# EAGLE library part ADIS16460* (library HyTechDevices)
14 pin connector specifically for ADIS16460 IMU Samtec Tiger Claw Datasheet <https://suddendocs.samtec.com/catalog_english/clm_sm.pdf> ADIS16460 Datasheet <https://www.analog.com/media/en/technical-documentation/data-sheets/ADIS16460.pdf>
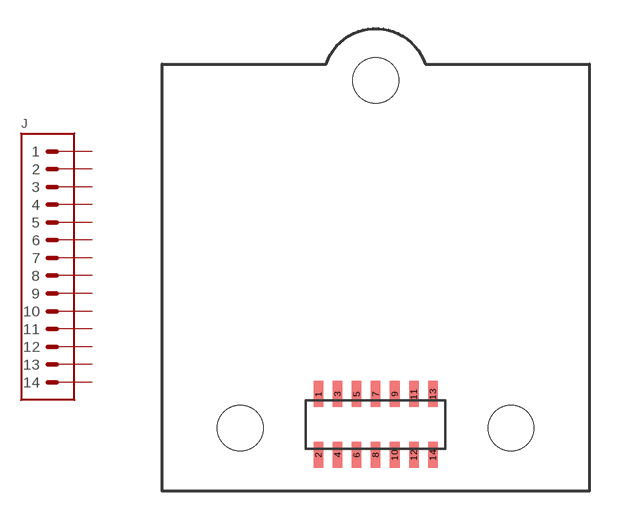
[diagram p56: symbol with the pads of ADIS16460; footprint ADIS16460]

Designator prefix J

## ADIS16460 (DKPN: SAM1129-07-ND; MANUFACTURER: Samtec Inc.; MPN: CLM-107-02)  [ADIS16460]
1  1  pas
2  2  pas
3  3  pas
4  4  pas
5  5  pas
6  6  pas
7  7  pas
8  8  pas
9  9  pas
10  10  pas
11  11  pas
12  12  pas
13  13  pas
14  14  pas

## Footprint ADIS16460 (pad centres in mm)
Samtec Tiger Claw CLM107-02 14 pin female header. Adapted for ADIS16460 Connector Datasheet <https://suddendocs.samtec.com/catalog_english/clm_sm.pdf> ADIS16460 Datasheet <https://www.analog.com/media/en/technical-documentation/data-sheets/ADIS16460.pdf>
smd 0.5 x 1.37: 1 -3,1.6; 2 -3,-1.6; 3 -2,1.6; 4 -2,-1.6; 5 -1,1.6; 6 -1,-1.6; 7 0,1.6; 8 0,-1.6; 9 1,1.6; 10 1,-1.6; 11 2,1.6; 12 2,-1.6; 13 3,1.6; 14 3,-1.6
hole 2.4 at -7.1,-0.19
hole 2.4 at 7.1,-0.19
hole 2.4 at 0,18.06